# EAGLE library part MAX323 (library SparkFun-Retired)
RETIRED Dual low-voltage SPST analog switch
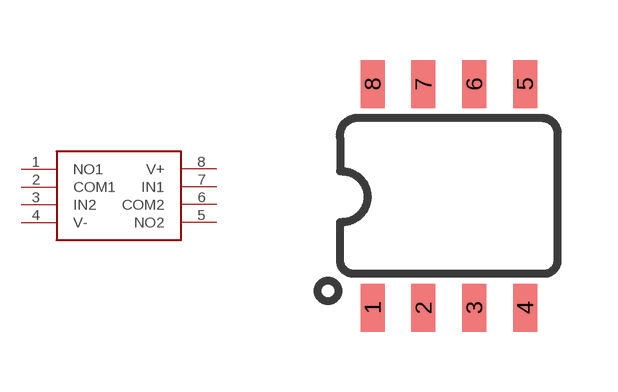
[diagram p32: symbol with the pads of SO08; footprint SO08]

Designator prefix U

## MAX323 (PROD_ID: IC-08171; VALUE: MAX323)  [SO08]
1  NO1
2  COM1
3  IN2
4  V-
5  NO2
6  COM2
7  IN1
8  V+

## Footprint SO08 (pad centres in mm)
SOIC, 0.15 inch width
smd 0.6 x 1.2: 1 -1.905,-2.8; 2 -0.635,-2.8; 3 0.635,-2.8; 4 1.905,-2.8; 5 1.905,2.8; 6 0.635,2.8; 7 -0.635,2.8; 8 -1.905,2.8